# Altium footprint library NCP705MTADJTCG.PcbLib: 1 footprints
Each footprint in its own frame and in the unit in brackets; x right, y up, seen from the top. Pads: shape width x height; smd on the part's side, far side on the other; paste and mask are expansions set on the pad; w line width, h text height; cw(c..) or ccw(c..) is an arc to the next point about the centre after c.
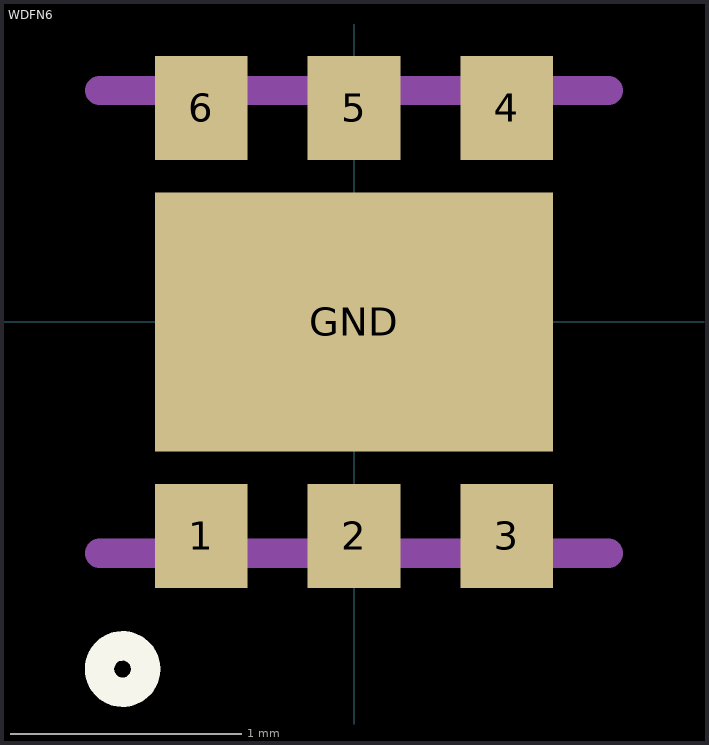
[diagram p0: the footprint, top view; thin cyan lines are the x and y axes]

## WDFN6 [mm]
pads (7):
  rect 0.4x0.45 smd: 1(-0.66,-0.925) 2(0,-0.925) 3(0.66,-0.925) 4(0.66,0.925) 5(0,0.925) 6(-0.66,0.925)
  rect 1.72x1.12 smd: GND(0,0)
Top Overlay:
  circle w0.127: c-1,-1.5 r0.1
Mechanical 1:
  lines w0.127: -1.1,-1 1.1,-1 ; -1.1,1 1.1,1